# Altium footprint library PCB - CONNECTOR - WURTH 7471212.PCBLIB: 1 footprints
Each footprint in its own frame and in the unit in brackets; x right, y up, seen from the top. Pads: shape width x height; smd on the part's side, far side on the other; paste and mask are expansions set on the pad; w line width, h text height; cw(c..) or ccw(c..) is an arc to the next point about the centre after c.
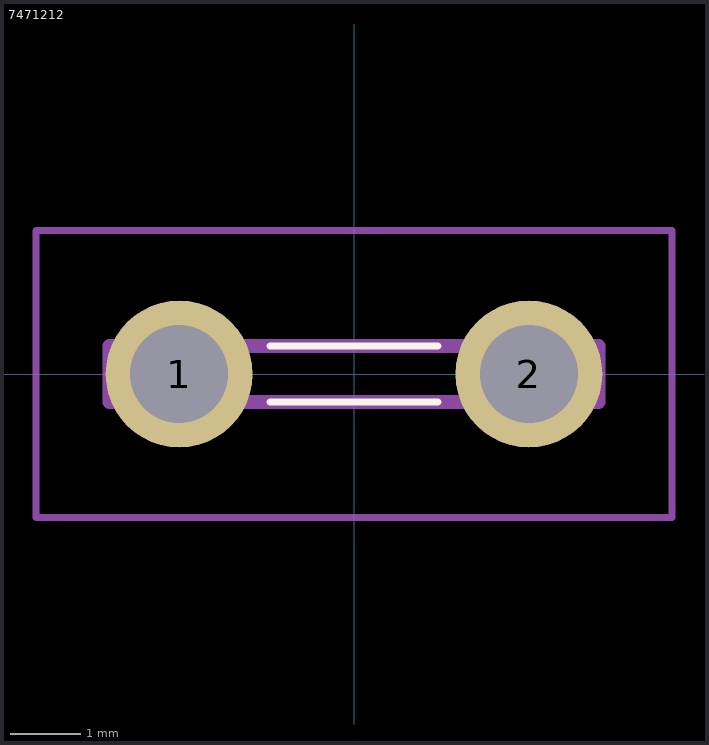
[diagram p0: the footprint, top view; thin cyan lines are the x and y axes]

## 7471212 [mm]
pads (2):
  round 2.1 hole 1.4: 1(-2.5,0) 2(2.5,0)
Top Overlay:
  lines w0.1: -1.2,-0.4 1.2,-0.4 ; -1.2,0.4 1.2,0.4
Mechanical 13:
  lines w0.2: -3.5,-0.4 3.5,-0.4 3.5,0.4 -3.5,0.4 -3.5,-0.4
Mechanical 15:
  lines w0.1: -4.55,-2.05 4.55,-2.05 4.55,2.05 -4.55,2.05 -4.55,-2.05
3D body "7471212.stp": height 9.7, standoff -5, extent -3.5,-0.599 3.5,0.599